# Altium footprint library analog_devices.PcbLib: 1 footprints
Each footprint in its own frame and in the unit in brackets; x right, y up, seen from the top. Pads: shape width x height; smd on the part's side, far side on the other; paste and mask are expansions set on the pad; w line width, h text height; cw(c..) or ccw(c..) is an arc to the next point about the centre after c.
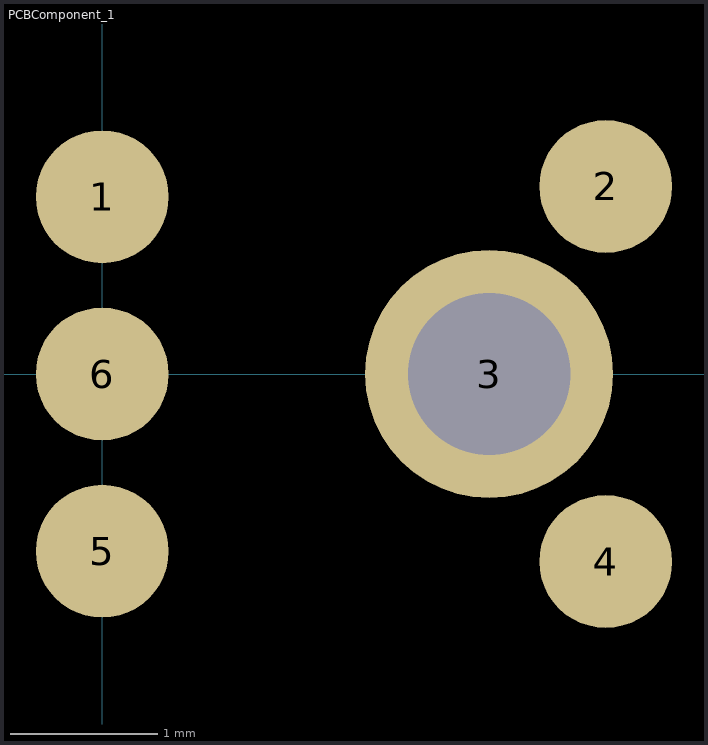
[diagram p0: the footprint, top view; thin cyan lines are the x and y axes]

## PCBComponent_1 [mm]
pads (6):
  round 0.9 smd: 1(0,1.2) 2(3.41,1.27) 4(3.41,-1.27) 5(0,-1.2) 6(0,0)
  round 1.68 hole 1.1 unplated mask+0.12: 3(2.62,0)